# EAGLE library part ISL1208 (library epic)
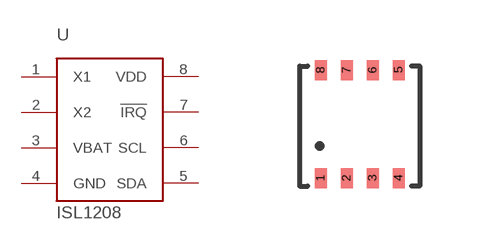
[diagram p27: symbol with the pads of TDFN-8; footprint TDFN-8]

Designator prefix U

## ISL1208  [TDFN-8]
1  X1
2  X2
3  VBAT
4  GND
5  SDA
6  SCL
7  !IRQ
8  VDD

## Footprint TDFN-8 (pad centres in mm)
smd 0.3 x 0.5: 1 -0.975,-1.3; 2 -0.325,-1.3; 3 0.325,-1.3; 4 0.975,-1.3; 5 0.975,1.4; 6 0.325,1.4; 7 -0.325,1.4; 8 -0.975,1.4